# Altium footprint library WL-SMCC.PcbLib: 5 footprints
Each footprint in its own frame and in the unit in brackets; x right, y up, seen from the top. Pads: shape width x height; smd on the part's side, far side on the other; paste and mask are expansions set on the pad; w line width, h text height; cw(c..) or ccw(c..) is an arc to the next point about the centre after c.
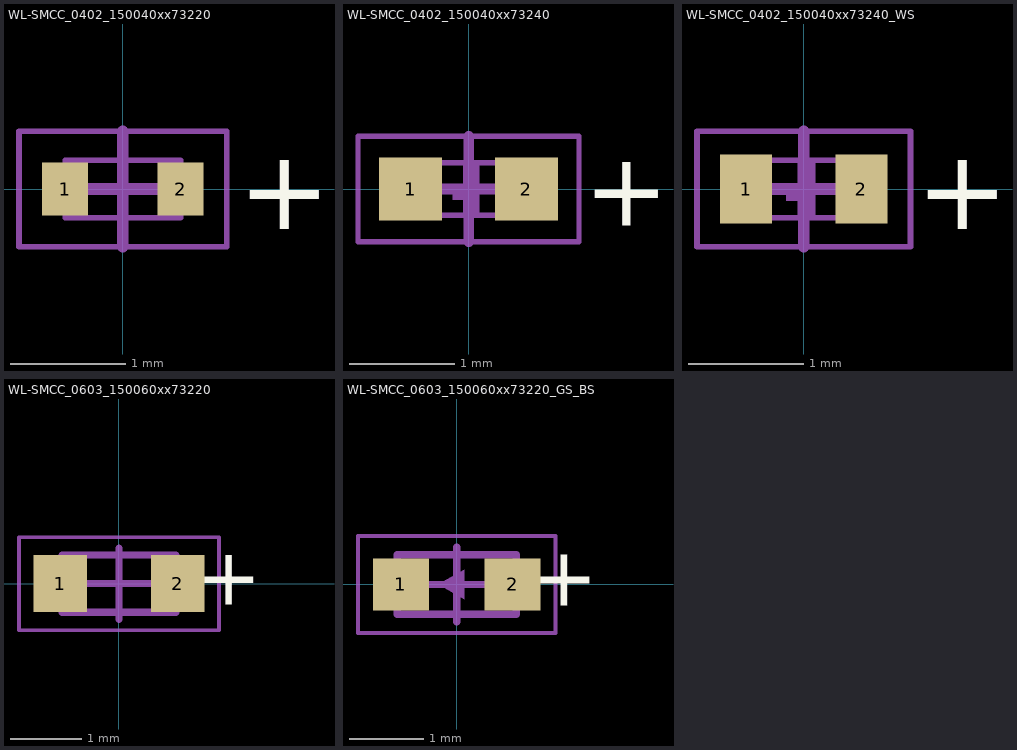
[diagram p0: the footprints below, top view; thin cyan lines are the x and y axes]

## WL-SMCC_0402_150040xx73220 [mm] "SMD Mono-color Chip LED Compact, body 1.00 x 0.50 mm"
height 0.25
pads (2):
  rect 0.4x0.46 smd: 1(-0.5,0) 2(0.5,0)
Top Overlay:
  text "+" at 1,-0.35 h0.7
Top Assembly:
  lines w0.05: -0.5,-0.25 -0.5,0.25 0.5,0.25 0.5,-0.25 -0.5,-0.25
Top Designator:
  text ".Designator" at -3.647,-0.357 h1
Top Courtyard:
  lines w0.05: -0.9,-0.5 -0.9,0.5 0.9,0.5 0.9,-0.5 -0.9,-0.5
Top Component Center:
  lines w0.1: -0.5,0 0.5,0 ; 0,-0.5 0,0.5
3D body "150040xx73220.stp": height 0.25, standoff 0, extent -0.5,-0.25 0.5,0.25

## WL-SMCC_0402_150040xx73240 [mm] "SMD Mono-color Chip LED Compact, body 1.00 x 0.50 mm"
height 0.4
pads (2):
  rect 0.6x0.6 smd: 1(-0.55,0) 2(0.55,0)
Top Overlay:
  text "+" at 1.1,-0.35 h0.7
Top Assembly:
  region: 0.1,0.25 0.1,-0.25 -0.05,-0.25 -0.05,-0.1 -0.15,-0.1 -0.15,0.05 -0.05,0.05 -0.05,0.25
  lines w0.05: -0.5,-0.25 -0.5,0.25 0.5,0.25 0.5,-0.25 -0.5,-0.25
Top Designator:
  text ".Designator" at -3.647,-0.357 h1
Top Courtyard:
  lines w0.05: -1.05,-0.5 -1.05,0.5 1.05,0.5 1.05,-0.5 -1.05,-0.5
Top Component Center:
  lines w0.1: -0.5,0 0.5,0 ; 0,-0.5 0,0.5
3D body "150040xx73240.stp": height 0.4, standoff 0, extent -0.5,-0.25 0.5,0.25

## WL-SMCC_0402_150040xx73240_WS [mm] "SMD Mono-color Chip LED Compact, body 1.00 x 0.50 mm"
height 0.43
pads (2):
  rect 0.45x0.6 smd: 1(-0.5,0) 2(0.5,0)
Top Overlay:
  text "+" at 0.975,-0.35 h0.7
Top Assembly:
  region: 0.1,0.25 0.1,-0.25 -0.05,-0.25 -0.05,-0.1 -0.15,-0.1 -0.15,0.05 -0.05,0.05 -0.05,0.25
  lines w0.05: -0.5,-0.25 0.5,-0.25 0.5,0.25 -0.5,0.25 -0.5,-0.25
Top Designator:
  text ".Designator" at -3.647,-0.357 h1
Top Courtyard:
  lines w0.05: -0.925,-0.5 0.925,-0.5 0.925,0.5 -0.925,0.5 -0.925,-0.5
Top Component Center:
  lines w0.1: -0.5,0 0.5,0 ; 0,-0.5 0,0.5
3D body "15040WS73240.stp": height 0.36, standoff 0.01, extent -0.5,-0.25 0.5,0.25

## WL-SMCC_0603_150060xx73220 [mm] "SMD Mono-color Chip LED Compact, body 1.60 x 0.80 mm"
height 0.2
pads (2):
  rect 0.75x0.8 smd: 1(-0.825,0) 2(0.825,0)
Top Overlay:
  text "+" at 2,0.4 h0.8
Top Assembly:
  lines w0.1: -0.8,-0.4 0.8,-0.4 0.8,0.4 -0.8,0.4 -0.8,-0.4
Top Designator:
  text ".Designator" at -3.647,-0.357 h1
Top Courtyard:
  lines w0.05: -1.4,-0.65 -1.4,0.65 1.4,0.65 1.4,-0.65 -1.4,-0.65
Top Component Center:
  lines w0.1: -0.5,0 0.5,0 ; 0,-0.5 0,0.5
3D body "150060xx73220_r.stp": height 0.19, standoff -0.01, extent -0.8,-0.4 0.8,0.4

## WL-SMCC_0603_150060xx73220_GS_BS [mm] "SMD Mono-color Chip LED Compact, body 1.60 x 0.8 mm"
height 0.2
pads (2):
  rect 0.75x0.7 smd: 1(-0.75,0) 2(0.75,0)
Top Overlay:
  text "+" at 1.9,0.4 h0.8
Top Assembly:
  region: 0.1,0.2 -0.246,0 0.1,-0.2
  lines w0.1: -0.8,-0.4 0.8,-0.4 0.8,0.4 -0.8,0.4 -0.8,-0.4
Top Designator:
  text ".Designator" at -3.647,-0.357 h1
Top Courtyard:
  lines w0.05: -1.325,-0.65 -1.325,0.65 1.325,0.65 1.325,-0.65 -1.325,-0.65
Top Component Center:
  lines w0.1: -0.5,0 0.5,0 ; 0,-0.5 0,0.5
3D body "WL-SMCC-150060BS73220 (rev1).stp": height 0.2, standoff 0, extent -0.8,-0.4 0.8,0.4